# EAGLE library part ATMEGA48-88-168-328 (library ATMEGA48-88-168-328)
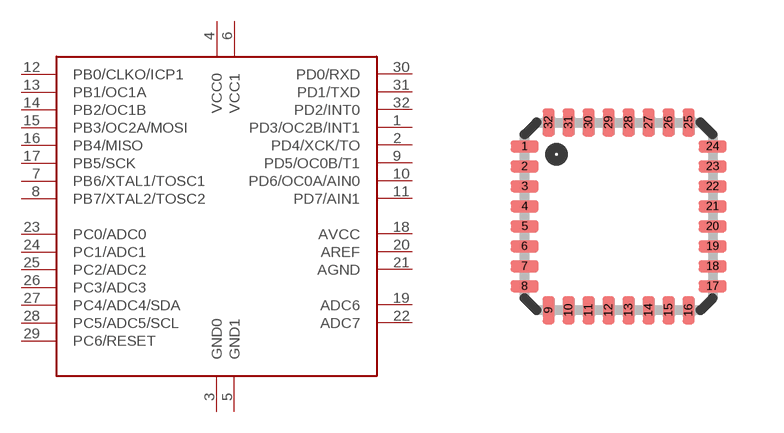
[diagram p0: symbol with the pads of MLF32; footprint MLF32]

Designator prefix U

## ATMEGA48-88-168-328  [MLF32]
1  PD3/OC2B/INT1
2  PD4/XCK/TO
3  GND0  pwr
4  VCC0  pwr
5  GND1  pwr
6  VCC1  pwr
7  PB6/XTAL1/TOSC1
8  PB7/XTAL2/TOSC2
9  PD5/OC0B/T1
10  PD6/OC0A/AIN0
11  PD7/AIN1
12  PB0/CLKO/ICP1
13  PB1/OC1A
14  PB2/OC1B
15  PB3/OC2A/MOSI
16  PB4/MISO
17  PB5/SCK
18  AVCC  in
19  ADC6  in
20  AREF  in
21  AGND  pwr
22  ADC7  in
23  PC0/ADC0
24  PC1/ADC1
25  PC2/ADC2
26  PC3/ADC3
27  PC4/ADC4/SDA
28  PC5/ADC5/SCL
29  PC6/RESET
30  PD0/RXD
31  PD1/TXD
32  PD2/INT0

## Footprint MLF32 (pad centres in mm)
32M1-A Micro Lead Frame package (MLF)
smd 0.7 x 0.3: 1 -2.35,1.75; 2 -2.35,1.25; 3 -2.35,0.75; 4 -2.35,0.25; 5 -2.35,-0.25; 6 -2.35,-0.75; 7 -2.35,-1.25; 8 -2.35,-1.75; 17 2.35,-1.75; 18 2.35,-1.25; 19 2.35,-0.75; 20 2.35,-0.25; 21 2.35,0.25; 22 2.35,0.75; 23 2.35,1.25; 24 2.35,1.75
smd 0.3 x 0.7: 9 -1.75,-2.35; 10 -1.25,-2.35; 11 -0.75,-2.35; 12 -0.25,-2.35; 13 0.25,-2.35; 14 0.75,-2.35; 15 1.25,-2.35; 16 1.75,-2.35; 25 1.75,2.35; 26 1.25,2.35; 27 0.75,2.35; 28 0.25,2.35; 29 -0.25,2.35; 30 -0.75,2.35; 31 -1.25,2.35; 32 -1.75,2.35